# EAGLE library part TPS40200 (library texas)
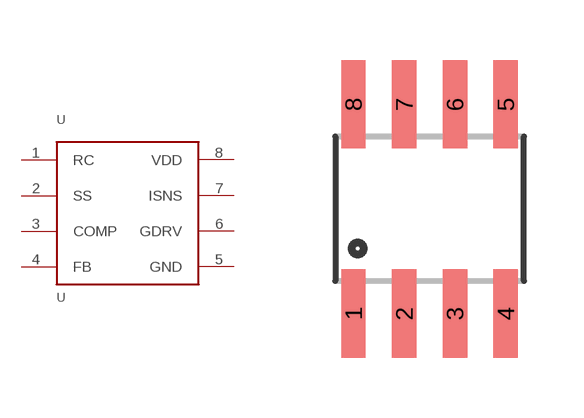
[diagram p5: symbol with the pads of SO08; footprint SO08]

Designator prefix -

## TPS40200  [SO08]
1  RC
2  SS
3  COMP
4  FB
5  GND  pwr
6  GDRV
7  ISNS
8  VDD  pwr

## Footprint SO08 (pad centres in mm)
Small Outline Package Fits JEDEC packages (narrow SOIC-8)
smd 0.61 x 2.21: 1 -1.905,-2.616; 2 -0.635,-2.616; 3 0.635,-2.616; 4 1.905,-2.616; 5 1.905,2.616; 6 0.635,2.616; 7 -0.635,2.616; 8 -1.905,2.616